# EAGLE library part TPS5430 (library Traficon)
3-A, WIDE INPUT RANGE, STEP-DOWN SWIFT? CONVERTER For SWIFT Documentation, Application Notes aid in quickly achieving high-performance power and Design Software, See the TI Website at supply designs to meet aggressive equipment www.ti.com/swift
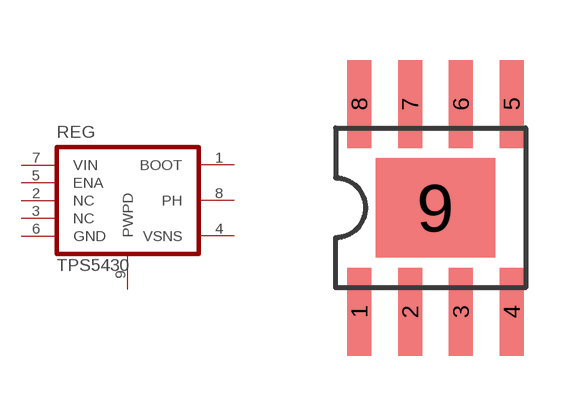
[diagram p90: symbol with the pads of SOIC8-POWERPAD; footprint SOIC8-POWERPAD]

Designator prefix REG

## TPS5430DDA  [SOIC8-POWERPAD]
1  BOOT
2  NC
3  NC
4  VSNS
5  ENA
6  GND
7  VIN
8  PH
9  PWPD

## Footprint SOIC8-POWERPAD (pad centres in mm)
smd 0.6 x 2.2: 1 -1.905,-2.6; 2 -0.635,-2.6; 3 0.635,-2.6; 4 1.905,-2.6; 5 1.905,2.6; 6 0.635,2.6; 7 -0.635,2.6; 8 -1.905,2.6
smd 2.997 x 2.489: 9 0,0